# EAGLE library part TEENSYVIEW (library SparkFun-Boards)
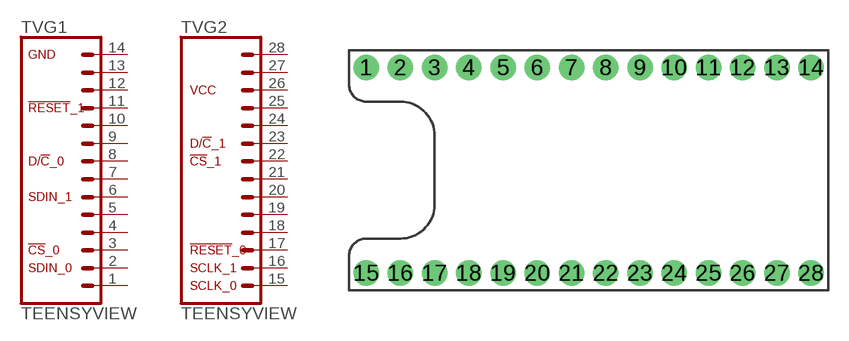
[diagram p19: symbol with the pads of TEENSYVIEW; footprint TEENSYVIEW]

Designator prefix TV; gates G1=TEENSYVIEW_1 G2=TEENSYVIEW_2

## TEENSYVIEW  [TEENSYVIEW]
1  G1:1  pas
2  G1:2  pas
3  G1:3  pas
4  G1:4  pas
5  G1:5  pas
6  G1:6  pas
7  G1:7  pas
8  G1:8  pas
9  G1:9  pas
10  G1:10  pas
11  G1:11  pas
12  G1:12  pas
13  G1:13  pas
14  G1:14  pas
15  G2:1  pas
16  G2:2  pas
17  G2:3  pas
18  G2:4  pas
19  G2:5  pas
20  G2:6  pas
21  G2:7  pas
22  G2:8  pas
23  G2:9  pas
24  G2:10  pas
25  G2:11  pas
26  G2:12  pas
27  G2:13  pas
28  G2:14  pas

## Footprint TEENSYVIEW (pad centres in mm)
drill 1.016 pad 1.88: 1 1.27,16.51; 2 3.81,16.51; 3 6.35,16.51; 4 8.89,16.51; 5 11.43,16.51; 6 13.97,16.51; 7 16.51,16.51; 8 19.05,16.51; 9 21.59,16.51; 10 24.13,16.51; 11 26.67,16.51; 12 29.21,16.51; 13 31.75,16.51; 14 34.29,16.51; 15 1.27,1.27; 16 3.81,1.27; 17 6.35,1.27; 18 8.89,1.27; 19 11.43,1.27; 20 13.97,1.27; 21 16.51,1.27; 22 19.05,1.27; 23 21.59,1.27; 24 24.13,1.27; 25 26.67,1.27; 26 29.21,1.27; 27 31.75,1.27; 28 34.29,1.27